# Altium schematic symbol library D 电源模块.SchLib: 131 symbols
Pins are listed as number, name and electrical type; pins without a type are passive.

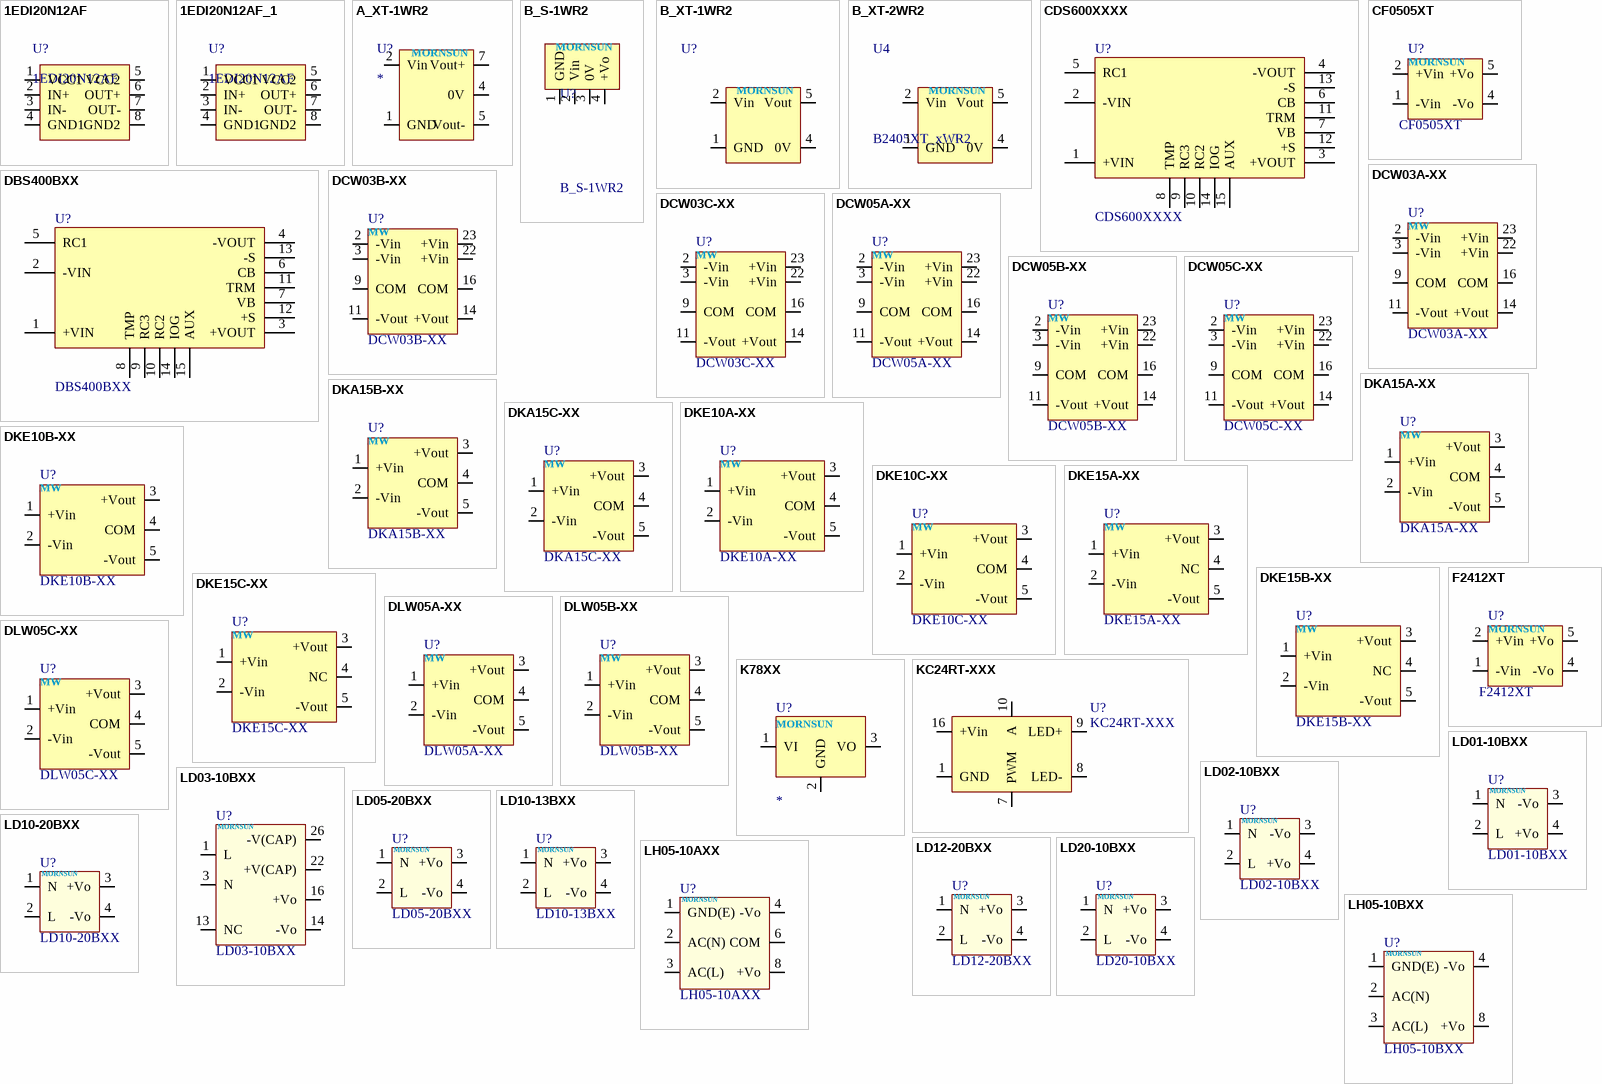
[diagram p0: symbols 1EDI20N12AF to LH05-10BXX]

## 1EDI20N12AF
designator U?
pins: 1 VCC1, 2 IN+, 3 IN-, 4 GND1, 5 VCC2, 6 OUT+, 7 OUT-, 8 GND2

## 1EDI20N12AF_1
designator U?, comment 1EDI20N12AF
pins: 1 VCC1, 2 IN+, 3 IN-, 4 GND1, 5 VCC2, 6 OUT+, 7 OUT-, 8 GND2

## A_XT-1WR2
designator U?
金升阳DC-DC定电压输入/隔离非稳压SMD/双路输出电源
pins: 1 GND, 2 Vin, 4 0V, 5 Vout-, 7 Vout+, 10 NC hidden
text: MORNSUN

## B_S-1WR2
designator U?
金升阳DC-DC定电压输入/隔离非稳压/单路输出电源
pins: 1 GND, 2 Vin, 3 0V, 4 +Vo
text: MORNSUN

## B_XT-1WR2
designator U?
金升阳DC-DC定电压输入/隔离非稳压SMD/单路输出电源
pins: 1 GND, 2 Vin, 4 0V, 5 Vout, 8 NC hidden
text: MORNSUN

## B_XT-2WR2
designator U4, comment B2405XT_xWR2
金升阳DC-DC定电压输入/隔离非稳压SMD/单路输出电源
pins: 1 GND, 2 Vin, 4 0V, 5 Vout, 8 NC hidden
text: MORNSUN

## CDS600XXXX
designator U?
COSEL 600W DC-DC电源
pins: 1 +VIN, 2 -VIN, 3 +VOUT, 4 -VOUT, 5 RC1, 6 CB, 7 VB, 8 TMP, 9 RC3, 10 RC2, 11 TRM, 12 +S, 13 -S, 14 IOG, 15 AUX

## CF0505XT
designator U?
金升阳DC-DC电源
pins: 1 -Vin, 2 +Vin, 4 -Vo, 5 +Vo
2 alternate drawings of the same symbol
text: MORNSUN

## DBS400BXX
designator U?
COSEL 400W DC-DC电源
pins: 1 +VIN, 2 -VIN, 3 +VOUT, 4 -VOUT, 5 RC1, 6 CB, 7 VB, 8 TMP, 9 RC3, 10 RC2, 11 TRM, 12 +S, 13 -S, 14 IOG, 15 AUX

## DCW03A-XX
designator U?
明纬 DC-DC 3W (9-18V)2：1宽输入/隔离稳压/双路输出电源
pins: 2 -Vin, 3 -Vin, 9 COM, 11 -Vout, 14 +Vout, 16 COM, 22 +Vin (power), 23 +Vin (power)
text: MW

## DCW03B-XX
designator U?
明纬 DC-DC 3W (18-36V)2：1宽输入/隔离稳压/双路输出电源
pins: 2 -Vin, 3 -Vin, 9 COM, 11 -Vout, 14 +Vout, 16 COM, 22 +Vin (power), 23 +Vin (power)
text: MW

## DCW03C-XX
designator U?
明纬 DC-DC 3W (36-72V)2：1宽输入/隔离稳压/双路输出电源
pins: 2 -Vin, 3 -Vin, 9 COM, 11 -Vout, 14 +Vout, 16 COM, 22 +Vin (power), 23 +Vin (power)
text: MW

## DCW05A-XX
designator U?
明纬 DC-DC 5W (9-18V)2：1宽输入/隔离稳压/双路输出电源
pins: 2 -Vin, 3 -Vin, 9 COM, 11 -Vout, 14 +Vout, 16 COM, 22 +Vin (power), 23 +Vin (power)
text: MW

## DCW05B-XX
designator U?
明纬 DC-DC 5W (18-36V)2：1宽输入/隔离稳压/双路输出电源
pins: 2 -Vin, 3 -Vin, 9 COM, 11 -Vout, 14 +Vout, 16 COM, 22 +Vin (power), 23 +Vin (power)
text: MW

## DCW05C-XX
designator U?
明纬 DC-DC 5W (36-72V)2：1宽输入/隔离稳压/双路输出电源
pins: 2 -Vin, 3 -Vin, 9 COM, 11 -Vout, 14 +Vout, 16 COM, 22 +Vin (power), 23 +Vin (power)
text: MW

## DKA15A-XX
designator U?
明纬 DC-DC 15W (9-18V)2：1宽输入/隔离稳压/双组输出电源
pins: 1 +Vin, 2 -Vin, 3 +Vout, 4 COM, 5 -Vout
text: MW

## DKA15B-XX
designator U?
明纬 DC-DC 15W (18-36V)2：1宽输入/隔离稳压/双组输出电源
pins: 1 +Vin, 2 -Vin, 3 +Vout, 4 COM, 5 -Vout
text: MW

## DKA15C-XX
designator U?
明纬 DC-DC 15W (36-72V)2：1宽输入/隔离稳压/双组输出电源
pins: 1 +Vin, 2 -Vin, 3 +Vout, 4 COM, 5 -Vout
text: MW

## DKE10A-XX
designator U?
明纬 DC-DC 10W (9-18V)2：1宽输入/隔离稳压/双组输出电源
pins: 1 +Vin, 2 -Vin, 3 +Vout, 4 COM, 5 -Vout
text: MW

## DKE10B-XX
designator U?
明纬 DC-DC 10W (18-36V)2：1宽输入/隔离稳压/双组输出电源
pins: 1 +Vin, 2 -Vin, 3 +Vout, 4 COM, 5 -Vout
text: MW

## DKE10C-XX
designator U?
明纬 DC-DC 10W (36-72V)2：1宽输入/隔离稳压/双组输出电源
pins: 1 +Vin, 2 -Vin, 3 +Vout, 4 COM, 5 -Vout
text: MW

## DKE15A-XX
designator U?
明纬 DC-DC 15W (9-18V)2：1宽输入/隔离稳压/双组输出电源
pins: 1 +Vin, 2 -Vin, 3 +Vout, 4 NC, 5 -Vout
text: MW

## DKE15B-XX
designator U?
明纬 DC-DC 15W (18-36V)2：1宽输入/隔离稳压/双组输出电源
pins: 1 +Vin, 2 -Vin, 3 +Vout, 4 NC, 5 -Vout
text: MW

## DKE15C-XX
designator U?
明纬 DC-DC 15W (36-72V)2：1宽输入/隔离稳压/双组输出电源
pins: 1 +Vin, 2 -Vin, 3 +Vout, 4 NC, 5 -Vout
text: MW

## DLW05A-XX
designator U?
明纬 DC-DC 5W (9-18V)2：1宽输入/隔离稳压/双组输出电源
pins: 1 +Vin, 2 -Vin, 3 +Vout, 4 COM, 5 -Vout
text: MW

## DLW05B-XX
designator U?
明纬 DC-DC 5W (18-36V)2：1宽输入/隔离稳压/双组输出电源
pins: 1 +Vin, 2 -Vin, 3 +Vout, 4 COM, 5 -Vout
text: MW

## DLW05C-XX
designator U?
明纬 DC-DC 5W (36-72V)2：1宽输入/隔离稳压/双组输出电源
pins: 1 +Vin, 2 -Vin, 3 +Vout, 4 COM, 5 -Vout
text: MW

## F2412XT
designator U?
金升阳DC-DC电源
pins: 1 -Vin, 2 +Vin, 4 -Vo, 5 +Vo
2 alternate drawings of the same symbol
text: MORNSUN

## K78XX
designator U?
金升阳三端稳压模块
pins: 1 VI, 2 GND, 3 VO
text: MORNSUN

## KC24RT-XXX
designator U?
金升阳大功率LED恒流驱动器-恒流单输出模块电源-300,350,500,600,700
pins: 1 GND, 7 PWM, 8 LED-, 9 LED+, 10 A, 16 +Vin

## LD01-10BXX
designator U?
金升阳 1 W 高性能超小体积AC-DC模块(85-265VAC,120-370VDC)
pins: 1 N, 2 L, 3 -Vo, 4 +Vo
text: MORNSUN

## LD02-10BXX
designator U?
金升阳 2 W 高性能超小体积AC-DC模块(85-265VAC,120-370VDC)
pins: 1 N, 2 L, 3 -Vo, 4 +Vo
text: MORNSUN

## LD03-10BXX
designator U?
金升阳 3 W 高性能超小体积AC-DC模块(85-265VAC,120-370VDC)
pins: 1 L, 3 N, 13 NC, 14 -Vo, 16 +Vo, 22 +V(CAP), 26 -V(CAP)
text: MORNSUN

## LD05-20BXX
designator U?
金升阳 5W 高性能超小体积AC-DC模块(85-265VAC,120-370VDC)
pins: 1 N, 2 L, 3 +Vo, 4 -Vo
text: MORNSUN

## LD10-13BXX
designator U?
金升阳 10W 高性能超小体积AC-DC模块(85-305VAC,120-430VDC)
pins: 1 N, 2 L, 3 +Vo, 4 -Vo
text: MORNSUN

## LD10-20BXX
designator U?
金升阳 10W 高性能超小体积AC-DC模块(85-265VAC,120-370VDC)
pins: 1 N, 2 L, 3 +Vo, 4 -Vo
text: MORNSUN

## LD12-20BXX
designator U?
金升阳 12W 高性能超小体积AC-DC模块(85-265VAC,120-370VDC)
pins: 1 N, 2 L, 3 +Vo, 4 -Vo
text: MORNSUN

## LD20-10BXX
designator U?
金升阳 20W 高性能超小体积AC-DC模块(85-265VAC,120-370VDC)
pins: 1 N, 2 L, 3 +Vo, 4 -Vo
text: MORNSUN

## LH05-10AXX
designator U?
金升阳 5 W 高性能小体积标准AC-DC模块(85-265VAC,120-370VDC)
pins: 1 GND(E), 2 AC(N), 3 AC(L), 4 -Vo, 6 COM, 8 +Vo
text: MORNSUN

## LH05-10BXX
designator U?
金升阳 5 W 高性能小体积标准AC-DC模块(85-265VAC,120-370VDC)
pins: 1 GND(E), 2 AC(N), 3 AC(L), 4 -Vo, 8 +Vo
text: MORNSUN

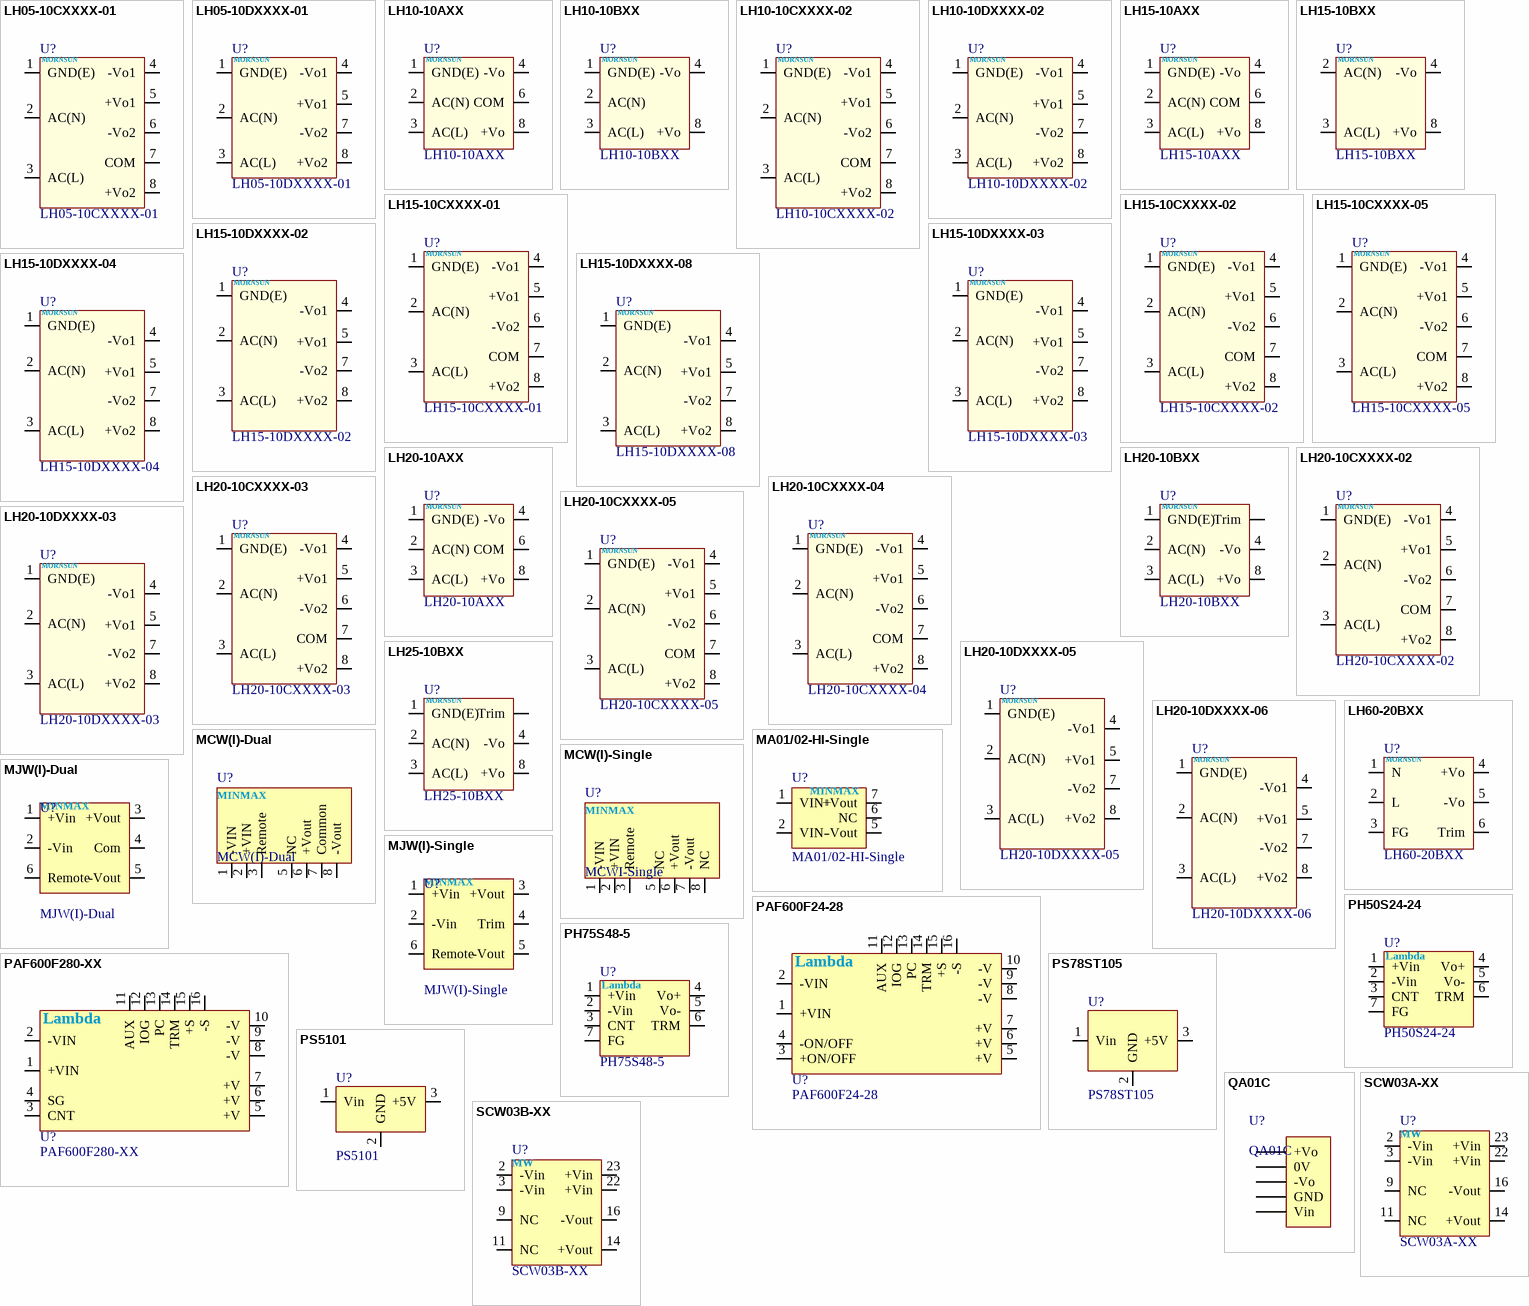
[diagram p1: symbols LH05-10CXXXX-01 to SCW03B-XX]

## LH05-10CXXXX-01
designator U?
金升阳 5 W 高性能小体积标准AC-DC模块(85-265VAC,120-370VDC)
pins: 1 GND(E), 2 AC(N), 3 AC(L), 4 -Vo1, 5 +Vo1, 6 -Vo2, 7 COM, 8 +Vo2
text: MORNSUN

## LH05-10DXXXX-01
designator U?
金升阳 5 W 高性能小体积标准AC-DC模块(85-265VAC,120-370VDC)
pins: 1 GND(E), 2 AC(N), 3 AC(L), 4 -Vo1, 5 +Vo1, 7 -Vo2, 8 +Vo2
text: MORNSUN

## LH10-10AXX
designator U?
金升阳 10W 高性能小体积标准AC-DC模块(85-265VAC,120-370VDC)
pins: 1 GND(E), 2 AC(N), 3 AC(L), 4 -Vo, 6 COM, 8 +Vo
text: MORNSUN

## LH10-10BXX
designator U?
金升阳 10 W 高性能小体积标准AC-DC模块(85-265VAC,120-370VDC)
pins: 1 GND(E), 2 AC(N), 3 AC(L), 4 -Vo, 8 +Vo
text: MORNSUN

## LH10-10CXXXX-02
designator U?
金升阳 10 W 高性能小体积标准AC-DC模块(85-265VAC,120-370VDC)
pins: 1 GND(E), 2 AC(N), 3 AC(L), 4 -Vo1, 5 +Vo1, 6 -Vo2, 7 COM, 8 +Vo2
text: MORNSUN

## LH10-10DXXXX-02
designator U?
金升阳 10 W 高性能小体积标准AC-DC模块(85-265VAC,120-370VDC)
pins: 1 GND(E), 2 AC(N), 3 AC(L), 4 -Vo1, 5 +Vo1, 7 -Vo2, 8 +Vo2
text: MORNSUN

## LH15-10AXX
designator U?
金升阳 15 W 高性能小体积标准AC-DC模块(85-265VAC,120-370VDC)
pins: 1 GND(E), 2 AC(N), 3 AC(L), 4 -Vo, 6 COM, 8 +Vo
text: MORNSUN

## LH15-10BXX
designator U?
金升阳 15 W 高性能小体积标准AC-DC模块(85-265VAC,120-370VDC)
pins: 2 AC(N), 3 AC(L), 4 -Vo, 8 +Vo
text: MORNSUN

## LH15-10CXXXX-01
designator U?
金升阳 15 W 高性能小体积标准AC-DC模块(85-265VAC,120-370VDC)
pins: 1 GND(E), 2 AC(N), 3 AC(L), 4 -Vo1, 5 +Vo1, 6 -Vo2, 7 COM, 8 +Vo2
text: MORNSUN

## LH15-10CXXXX-02
designator U?
金升阳 15 W 高性能小体积标准AC-DC模块(85-265VAC,120-370VDC)
pins: 1 GND(E), 2 AC(N), 3 AC(L), 4 -Vo1, 5 +Vo1, 6 -Vo2, 7 COM, 8 +Vo2
text: MORNSUN

## LH15-10CXXXX-05
designator U?
金升阳 15 W 高性能小体积标准AC-DC模块(85-265VAC,120-370VDC)
pins: 1 GND(E), 2 AC(N), 3 AC(L), 4 -Vo1, 5 +Vo1, 6 -Vo2, 7 COM, 8 +Vo2
text: MORNSUN

## LH15-10DXXXX-02
designator U?
金升阳 15 W 高性能小体积标准AC-DC模块(85-265VAC,120-370VDC)
pins: 1 GND(E), 2 AC(N), 3 AC(L), 4 -Vo1, 5 +Vo1, 7 -Vo2, 8 +Vo2
text: MORNSUN

## LH15-10DXXXX-03
designator U?
金升阳 15 W 高性能小体积标准AC-DC模块(85-265VAC,120-370VDC)
pins: 1 GND(E), 2 AC(N), 3 AC(L), 4 -Vo1, 5 +Vo1, 7 -Vo2, 8 +Vo2
text: MORNSUN

## LH15-10DXXXX-04
designator U?
金升阳 15 W 高性能小体积标准AC-DC模块(85-265VAC,120-370VDC)
pins: 1 GND(E), 2 AC(N), 3 AC(L), 4 -Vo1, 5 +Vo1, 7 -Vo2, 8 +Vo2
text: MORNSUN

## LH15-10DXXXX-08
designator U?
金升阳 15 W 高性能小体积标准AC-DC模块(85-265VAC,120-370VDC)
pins: 1 GND(E), 2 AC(N), 3 AC(L), 4 -Vo1, 5 +Vo1, 7 -Vo2, 8 +Vo2
text: MORNSUN

## LH20-10AXX
designator U?
金升阳 20 W 高性能小体积标准AC-DC模块(85-265VAC,120-370VDC)
pins: 1 GND(E), 2 AC(N), 3 AC(L), 4 -Vo, 6 COM, 8 +Vo
text: MORNSUN

## LH20-10BXX
designator U?
金升阳 20 W 高性能小体积标准AC-DC模块(85-265VAC,120-370VDC)
pins: 1 GND(E), 2 AC(N), 3 AC(L), 4 -Vo, 8 +Vo, 9 Trim
text: MORNSUN

## LH20-10CXXXX-02
designator U?
金升阳 20W 高性能小体积标准AC-DC模块(85-265VAC,120-370VDC)
pins: 1 GND(E), 2 AC(N), 3 AC(L), 4 -Vo1, 5 +Vo1, 6 -Vo2, 7 COM, 8 +Vo2
text: MORNSUN

## LH20-10CXXXX-03
designator U?
金升阳 20W 高性能小体积标准AC-DC模块(85-265VAC,120-370VDC)
pins: 1 GND(E), 2 AC(N), 3 AC(L), 4 -Vo1, 5 +Vo1, 6 -Vo2, 7 COM, 8 +Vo2
text: MORNSUN

## LH20-10CXXXX-04
designator U?
金升阳 20W 高性能小体积标准AC-DC模块(85-265VAC,120-370VDC)
pins: 1 GND(E), 2 AC(N), 3 AC(L), 4 -Vo1, 5 +Vo1, 6 -Vo2, 7 COM, 8 +Vo2
text: MORNSUN

## LH20-10CXXXX-05
designator U?
金升阳 20W 高性能小体积标准AC-DC模块(85-265VAC,120-370VDC)
pins: 1 GND(E), 2 AC(N), 3 AC(L), 4 -Vo1, 5 +Vo1, 6 -Vo2, 7 COM, 8 +Vo2
text: MORNSUN

## LH20-10DXXXX-03
designator U?
金升阳 20W 高性能小体积标准AC-DC模块(85-265VAC,120-370VDC)
pins: 1 GND(E), 2 AC(N), 3 AC(L), 4 -Vo1, 5 +Vo1, 7 -Vo2, 8 +Vo2
text: MORNSUN

## LH20-10DXXXX-05
designator U?
金升阳 20W 高性能小体积标准AC-DC模块(85-265VAC,120-370VDC)
pins: 1 GND(E), 2 AC(N), 3 AC(L), 4 -Vo1, 5 +Vo1, 7 -Vo2, 8 +Vo2
text: MORNSUN

## LH20-10DXXXX-06
designator U?
金升阳 20W 高性能小体积标准AC-DC模块(85-265VAC,120-370VDC)
pins: 1 GND(E), 2 AC(N), 3 AC(L), 4 -Vo1, 5 +Vo1, 7 -Vo2, 8 +Vo2
text: MORNSUN

## LH25-10BXX
designator U?
金升阳 25 W 高性能小体积标准AC-DC模块(85-265VAC,120-370VDC)
pins: 1 GND(E), 2 AC(N), 3 AC(L), 4 -Vo, 8 +Vo, Trim
text: MORNSUN

## LH60-20BXX
designator U?
金升阳 60 W 高性能小体积标准AC-DC模块(85-265VAC,120-370VDC)
pins: 1 N, 2 L, 3 FG, 4 +Vo, 5 -Vo, 6 Trim
text: MORNSUN

## MA01/02-HI-Single
designator U?
DC/DC开关电源
pins: 1 VIN+, 2 VIN-, 5 -Vout, 6 NC, 7 +Vout
text: MINMAX

## MCW(I)-Dual
designator U?
DC/DC开关电源
pins: 1 -VIN, 2 +VIN, 3 Remote, 5 NC, 6 +Vout, 7 Common, 8 -Vout
text: MINMAX

## MCW(I)-Single
designator U?, comment MCWI-Single
DC/DC开关电源
pins: 1 -VIN, 2 +VIN, 3 Remote, 5 NC, 6 +Vout, 7 -Vout, 8 NC
text: MINMAX

## MJW(I)-Dual
designator U?
DC/DC开关电源
pins: 1 +Vin, 2 -Vin, 3 +Vout, 4 Com, 5 -Vout, 6 Remote
2 alternate drawings of the same symbol
text: MINMAX

## MJW(I)-Single
designator U?
DC/DC开关电源
pins: 1 +Vin, 2 -Vin, 3 +Vout, 4 Trim, 5 -Vout, 6 Remote
2 alternate drawings of the same symbol
text: MINMAX

## PAF600F24-28
designator U?
LAMBDA  DC-DC电源模块 (全砖型) 602W Input:19-36 Output:28
pins: 1 +VIN, 2 -VIN, 3 +ON/OFF, 4 -ON/OFF, 5 +V, 6 +V, 7 +V, 8 -V, 9 -V, 10 -V, 11 AUX, 12 IOG, 13 PC, 14 TRM, 15 +S, 16 -S
text: Lambda

## PAF600F280-XX
designator U?
LAMBDA  DC-DC电源模块 (全砖型) 600W Input:200-400
pins: 1 +VIN, 2 -VIN, 3 CNT, 4 SG, 5 +V, 6 +V, 7 +V, 8 -V, 9 -V, 10 -V, 11 AUX, 12 IOG, 13 PC, 14 TRM, 15 +S, 16 -S
text: Lambda

## PH50S24-24
designator U?
LAMBDA  DC-DC电源模块 50W Input:24V Output:24V
pins: 1 +Vin, 2 -Vin, 3 CNT, 4 Vo+, 5 Vo-, 6 TRM, 7 FG
text: Lambda

## PH75S48-5
designator U?
LAMBDA  DC-DC电源模块 75W Input:48V Output:5V
pins: 1 +Vin, 2 -Vin, 3 CNT, 4 Vo+, 5 Vo-, 6 TRM, 7 FG
text: Lambda

## PS78ST105
designator U?
TO-220封装，Input:7-25V,Output:5V ,7.5W降压型DC-DC电源模块
pins: 1 Vin, 2 GND, 3 +5V

## PS5101
designator U?
TO-220封装，Input:7-40V,Output:5V ,5W降压型DC-DC电源模块
pins: 1 Vin, 2 GND, 3 +5V

## QA01C
designator U?
pins: 1 Vin, 2 GND, 5 -Vo, 6 0V, 7 +Vo

## SCW03A-XX
designator U?
明纬DC-DC 3W (9-18V)2：1宽输入/隔离稳压/单组输出电源
pins: 2 -Vin, 3 -Vin, 9 NC, 11 NC, 14 +Vout, 16 -Vout, 22 +Vin (power), 23 +Vin (power)
text: MW

## SCW03B-XX
designator U?
明纬DC-DC 3W (18-36V)2：1宽输入/隔离稳压/单组输出电源
pins: 2 -Vin, 3 -Vin, 9 NC, 11 NC, 14 +Vout, 16 -Vout, 22 +Vin (power), 23 +Vin (power)
text: MW

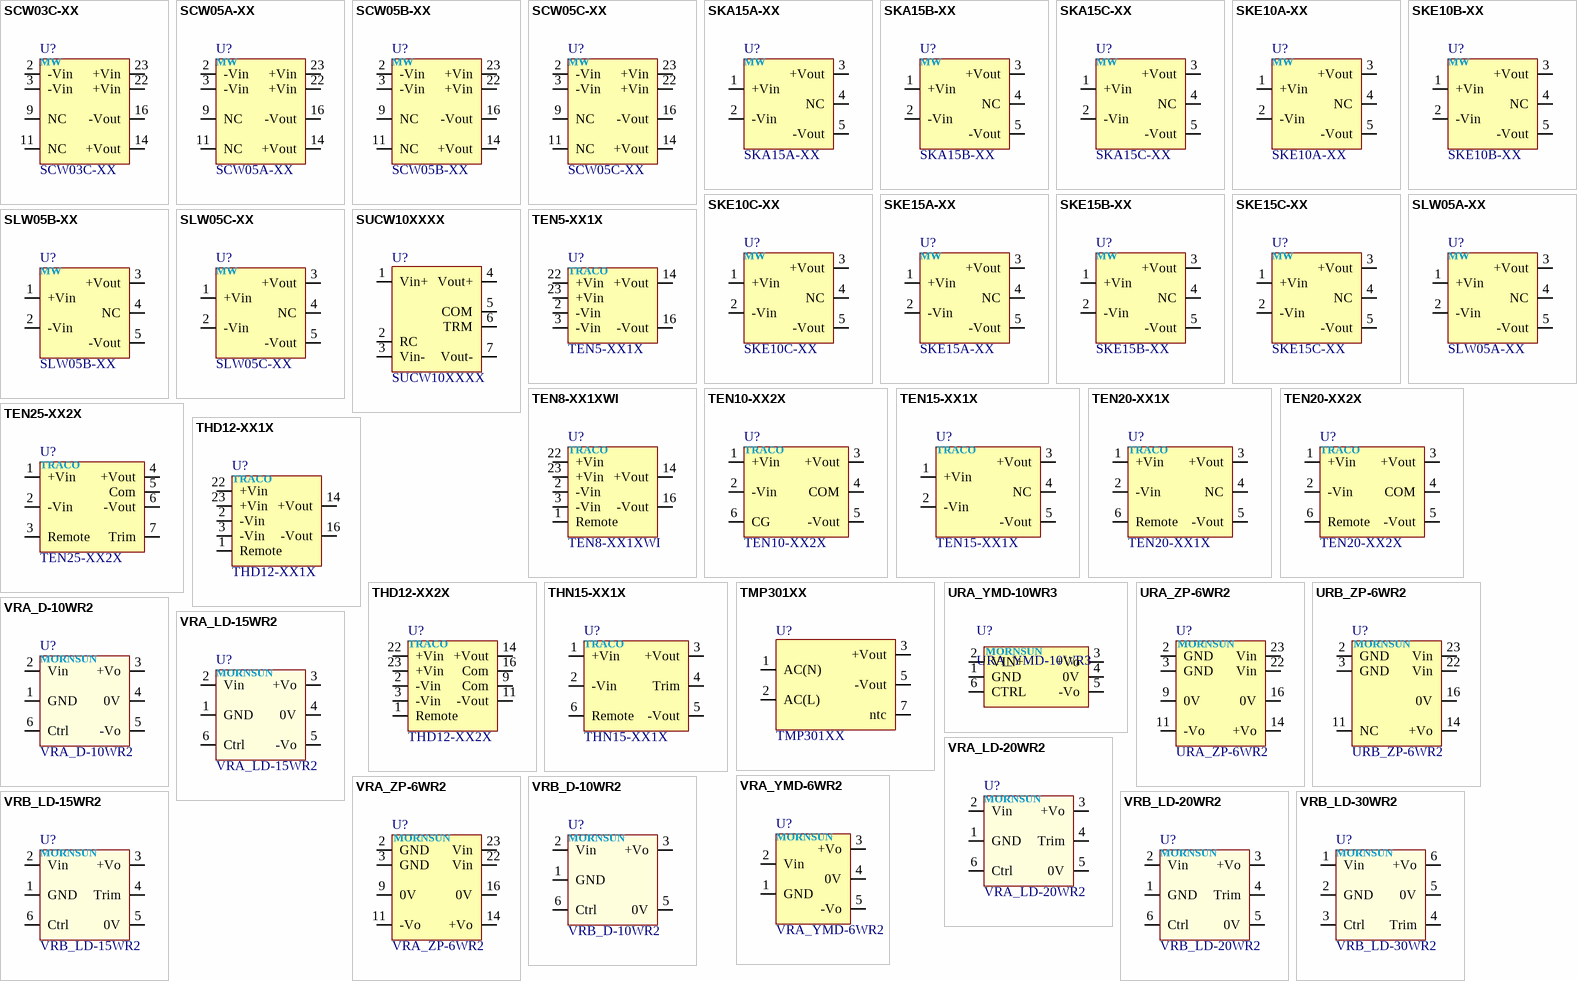
[diagram p2: symbols SCW03C-XX to VRB_LD-30WR2]

## SCW03C-XX
designator U?
明纬DC-DC 3W (36-72V)2：1宽输入/隔离稳压/单组输出电源
pins: 2 -Vin, 3 -Vin, 9 NC, 11 NC, 14 +Vout, 16 -Vout, 22 +Vin (power), 23 +Vin (power)
text: MW

## SCW05A-XX
designator U?
明纬 DC-DC 5W (9-18V)2：1宽输入/隔离稳压/单组输出电源
pins: 2 -Vin, 3 -Vin, 9 NC, 11 NC, 14 +Vout, 16 -Vout, 22 +Vin (power), 23 +Vin (power)
text: MW

## SCW05B-XX
designator U?
明纬 DC-DC 5W (18-36V)2：1宽输入/隔离稳压/单组输出电源
pins: 2 -Vin, 3 -Vin, 9 NC, 11 NC, 14 +Vout, 16 -Vout, 22 +Vin (power), 23 +Vin (power)
text: MW

## SCW05C-XX
designator U?
明纬 DC-DC 5W (36-72V)2：1宽输入/隔离稳压/单组输出电源
pins: 2 -Vin, 3 -Vin, 9 NC, 11 NC, 14 +Vout, 16 -Vout, 22 +Vin (power), 23 +Vin (power)
text: MW

## SKA15A-XX
designator U?
明纬 DC-DC 15W (9-18V)2：1宽输入/隔离稳压/单组输出电源
pins: 1 +Vin, 2 -Vin, 3 +Vout, 4 NC, 5 -Vout
text: MW

## SKA15B-XX
designator U?
明纬 DC-DC 15W (18-36V)2：1宽输入/隔离稳压/单组输出电源
pins: 1 +Vin, 2 -Vin, 3 +Vout, 4 NC, 5 -Vout
text: MW

## SKA15C-XX
designator U?
明纬 DC-DC 15W (36-72V)2：1宽输入/隔离稳压/单组输出电源
pins: 1 +Vin, 2 -Vin, 3 +Vout, 4 NC, 5 -Vout
text: MW

## SKE10A-XX
designator U?
明纬 DC-DC 10W (9-18V)2：1宽输入/隔离稳压/单组输出电源
pins: 1 +Vin, 2 -Vin, 3 +Vout, 4 NC, 5 -Vout
text: MW

## SKE10B-XX
designator U?
明纬 DC-DC 10W (18-36V)2：1宽输入/隔离稳压/单组输出电源
pins: 1 +Vin, 2 -Vin, 3 +Vout, 4 NC, 5 -Vout
text: MW

## SKE10C-XX
designator U?
明纬 DC-DC 10W (36-72V)2：1宽输入/隔离稳压/单组输出电源
pins: 1 +Vin, 2 -Vin, 3 +Vout, 4 NC, 5 -Vout
text: MW

## SKE15A-XX
designator U?
明纬 DC-DC 15W (9-18V)2：1宽输入/隔离稳压/单组输出电源
pins: 1 +Vin, 2 -Vin, 3 +Vout, 4 NC, 5 -Vout
text: MW

## SKE15B-XX
designator U?
明纬 DC-DC 15W (18-36V)2：1宽输入/隔离稳压/单组输出电源
pins: 1 +Vin, 2 -Vin, 3 +Vout, 4 NC, 5 -Vout
text: MW

## SKE15C-XX
designator U?
明纬 DC-DC 15W (36-72V)2：1宽输入/隔离稳压/单组输出电源
pins: 1 +Vin, 2 -Vin, 3 +Vout, 4 NC, 5 -Vout
text: MW

## SLW05A-XX
designator U?
明纬 DC-DC 5W (9-18V)2：1宽输入/隔离稳压/单组输出电源
pins: 1 +Vin, 2 -Vin, 3 +Vout, 4 NC, 5 -Vout
text: MW

## SLW05B-XX
designator U?
明纬 DC-DC 5W (18-36V)2：1宽输入/隔离稳压/单组输出电源
pins: 1 +Vin, 2 -Vin, 3 +Vout, 4 NC, 5 -Vout
text: MW

## SLW05C-XX
designator U?
明纬 DC-DC 5W (36-72V)2：1宽输入/隔离稳压/单组输出电源
pins: 1 +Vin, 2 -Vin, 3 +Vout, 4 NC, 5 -Vout
text: MW

## SUCW10XXXX
designator U?
COSEL 10W DC-DC电源
pins: 1 Vin+, 2 RC, 3 Vin-, 4 Vout+, 5 COM, 6 TRM, 7 Vout-

## TEN5-XX1X
designator U?
TRACO DC-DC 6W 2：1宽输入/隔离稳压/单组输出电源
pins: 2 -Vin, 3 -Vin, 14 +Vout, 16 -Vout, 22 +Vin, 23 +Vin
text: TRACO

## TEN8-XX1XWI
designator U?
TRACO DC-DC 8W 4：1宽输入/隔离稳压/单组输出电源
pins: 1 Remote, 2 -Vin, 3 -Vin, 14 +Vout, 16 -Vout, 22 +Vin, 23 +Vin
text: TRACO

## TEN10-XX2X
designator U?
TRACO DC-DC 10W 2：1宽输入/隔离稳压/双组输出电源
pins: 1 +Vin, 2 -Vin, 3 +Vout, 4 COM, 5 -Vout, 6 CG
text: TRACO

## TEN15-XX1X
designator U?
TRACO DC-DC 15W 2：1宽输入/隔离稳压/单组输出电源
pins: 1 +Vin, 2 -Vin, 3 +Vout, 4 NC, 5 -Vout
text: TRACO

## TEN20-XX1X
designator U?
TRACO DC-DC 10W 2：1宽输入/隔离稳压/双组输出电源
pins: 1 +Vin, 2 -Vin, 3 +Vout, 4 NC, 5 -Vout, 6 Remote
text: TRACO

## TEN20-XX2X
designator U?
TRACO DC-DC 10W 2：1宽输入/隔离稳压/双组输出电源
pins: 1 +Vin, 2 -Vin, 3 +Vout, 4 COM, 5 -Vout, 6 Remote
text: TRACO

## TEN25-XX2X
designator U?
TRACO DC-DC 25W 2：1宽输入/隔离稳压/双组输出电源
pins: 1 +Vin, 2 -Vin, 3 Remote, 4 +Vout, 5 Com, 6 -Vout, 7 Trim
text: TRACO

## THD12-XX1X
designator U?
TRACO DC-DC 12W 2：1宽输入/隔离稳压/单组输出电源
pins: 1 Remote, 2 -Vin, 3 -Vin, 14 +Vout, 16 -Vout, 22 +Vin, 23 +Vin
text: TRACO

## THD12-XX2X
designator U?
TRACO DC-DC 12W 2：1宽输入/隔离稳压/双组输出电源
pins: 1 Remote, 2 -Vin, 3 -Vin, 9 Com, 11 -Vout, 14 +Vout, 16 Com, 22 +Vin, 23 +Vin
text: TRACO

## THN15-XX1X
designator U?
TRACO DC-DC 15W 2：1宽输入/隔离稳压/单组输出电源
pins: 1 +Vin, 2 -Vin, 3 +Vout, 4 Trim, 5 -Vout, 6 Remote
text: TRACO

## TMP301XX
designator U?
TRACO AC-DC 30W 单组输出电源
pins: 1 AC(N), 2 AC(L), 3 +Vout, 5 -Vout, 7 ntc

## URA_YMD-10WR3
designator U?
footprint URA_YMD-10WR3
pins: 1 GND, 2 VIN+, 3 +Vo, 4 0V, 5 -Vo, 6 CTRL
text: MORNSUN

## URA_ZP-6WR2
designator U?
金升阳DC-DC 6W 4：1宽输入/隔离稳压/正负双路输出电源
pins: 2 GND, 3 GND, 9 0V, 11 -Vo, 14 +Vo, 16 0V, 22 Vin (power), 23 Vin (power)
text: MORNSUN

## URB_ZP-6WR2
designator U?
金升阳DC-DC 6W 4：1宽输入/隔离稳压/单路输出电源
pins: 2 GND, 3 GND, 11 NC, 14 +Vo, 16 0V, 22 Vin (power), 23 Vin (power)
text: MORNSUN

## VRA_D-10WR2
designator U?
金升阳DC-DC 10W 2：1宽输入/隔离稳压/正负双路输出电源
pins: 1 GND, 2 Vin, 3 +Vo, 4 0V, 5 -Vo, 6 Ctrl
text: MORNSUN

## VRA_LD-15WR2
designator U?
金升阳DC-DC 15W 2：1宽输入/隔离稳压/正负双路输出电源
pins: 1 GND, 2 Vin, 3 +Vo, 4 0V, 5 -Vo, 6 Ctrl
text: MORNSUN

## VRA_LD-20WR2
designator U?
金升阳DC-DC 20W 2：1宽输入/隔离稳压/正负双路输出电源
pins: 1 GND, 2 Vin, 3 +Vo, 4 Trim, 5 0V, 6 Ctrl
text: MORNSUN

## VRA_YMD-6WR2
designator U?
金升阳DC-DC 6W 2：1宽输入/隔离稳压/正负双路输出电源
pins: 1 GND, 2 Vin, 3 +Vo, 4 0V, 5 -Vo
text: MORNSUN

## VRA_ZP-6WR2
designator U?
金升阳DC-DC 6W 2：1宽输入/隔离稳压/正负双路输出电源
pins: 2 GND, 3 GND, 9 0V, 11 -Vo, 14 +Vo, 16 0V, 22 Vin (power), 23 Vin (power)
text: MORNSUN

## VRB_D-10WR2
designator U?
金升阳DC-DC 10W 2：1宽输入/隔离稳压/单路输出电源
pins: 1 GND, 2 Vin, 3 +Vo, 5 0V, 6 Ctrl
text: MORNSUN

## VRB_LD-15WR2
designator U?
金升阳DC-DC 15W 2：1宽输入/隔离稳压/单路输出电源
pins: 1 GND, 2 Vin, 3 +Vo, 4 Trim, 5 0V, 6 Ctrl
text: MORNSUN

## VRB_LD-20WR2
designator U?
金升阳DC-DC 20W 2：1宽输入/隔离稳压/单路输出电源
pins: 1 GND, 2 Vin, 3 +Vo, 4 Trim, 5 0V, 6 Ctrl
text: MORNSUN

## VRB_LD-30WR2
designator U?
金升阳DC-DC 30W 2：1宽输入/隔离稳压/单路输出电源
pins: 1 Vin, 2 GND, 3 Ctrl, 4 Trim, 5 0V, 6 +Vo
text: MORNSUN

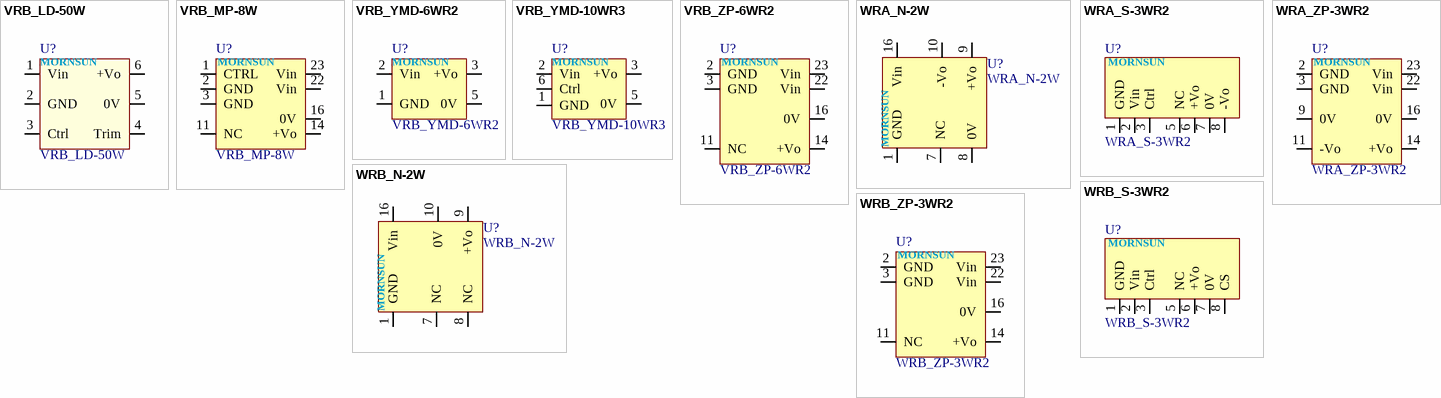
[diagram p3: symbols VRB_LD-50W to WRB_ZP-3WR2]

## VRB_LD-50W
designator U?
金升阳DC-DC 50W 2：1宽输入/隔离稳压/单路输出电源
pins: 1 Vin, 2 GND, 3 Ctrl, 4 Trim, 5 0V, 6 +Vo
text: MORNSUN

## VRB_MP-8W
designator U?
金升阳DC-DC 8W 2：1宽输入/隔离稳压/单路输出电源
pins: 1 CTRL, 2 GND, 3 GND, 11 NC, 14 +Vo, 16 0V, 22 Vin (power), 23 Vin (power)
text: MORNSUN

## VRB_YMD-6WR2
designator U?
金升阳DC-DC 6W 2：1宽输入/隔离稳压/单路输出电源
pins: 1 GND, 2 Vin, 3 +Vo, 5 0V
text: MORNSUN

## VRB_YMD-10WR3
designator U?
金升阳DC-DC 10W 2：1宽输入/隔离稳压/单路输出电源
pins: 1 GND, 2 Vin, 3 +Vo, 5 0V, 6 Ctrl
text: MORNSUN

## VRB_ZP-6WR2
designator U?
金升阳DC-DC 6W 2：1宽输入/隔离稳压/单路输出电源
pins: 2 GND, 3 GND, 11 NC, 14 +Vo, 16 0V, 22 Vin (power), 23 Vin (power)
text: MORNSUN

## WRA_N-2W
designator U?
金升阳DC-DC 2W 2：1宽输入/隔离稳压/正负双路输出超小型DIP封装电源
pins: 1 GND, 7 NC, 8 0V, 9 +Vo, 10 -Vo, 16 Vin (power)
text: MORNSUN

## WRA_S-3WR2
designator U?
金升阳DC-DC 3W 2：1宽输入/隔离稳压/正负双路输出电源
pins: 1 GND, 2 Vin, 3 Ctrl, 5 NC, 6 +Vo, 7 0V, 8 -Vo
text: MORNSUN

## WRA_ZP-3WR2
designator U?
金升阳DC-DC 3W 2：1宽输入/隔离稳压/正负双路输出电源
pins: 2 GND, 3 GND, 9 0V, 11 -Vo, 14 +Vo, 16 0V, 22 Vin (power), 23 Vin (power)
text: MORNSUN

## WRB_N-2W
designator U?
金升阳DC-DC 2W 2：1宽输入/隔离稳压/单路输出超小型DIP封装电源
pins: 1 GND, 7 NC, 8 NC, 9 +Vo, 10 0V, 16 Vin (power)
text: MORNSUN

## WRB_S-3WR2
designator U?
金升阳DC-DC 3W 2：1宽输入/隔离稳压/单路输出电源
pins: 1 GND, 2 Vin, 3 Ctrl, 5 NC, 6 +Vo, 7 0V, 8 CS
text: MORNSUN

## WRB_ZP-3WR2
designator U?
金升阳DC-DC 3W 2：1宽输入/隔离稳压/单路输出电源
pins: 2 GND, 3 GND, 11 NC, 14 +Vo, 16 0V, 22 Vin (power), 23 Vin (power)
text: MORNSUN